# Altium footprint library PcbLib_Discrete.PcbLib: 28 footprints (part 1 of 2)
Each footprint in its own frame and in the unit in brackets; x right, y up, seen from the top. Pads: shape width x height; smd on the part's side, far side on the other; paste and mask are expansions set on the pad; w line width, h text height; cw(c..) or ccw(c..) is an arc to the next point about the centre after c.
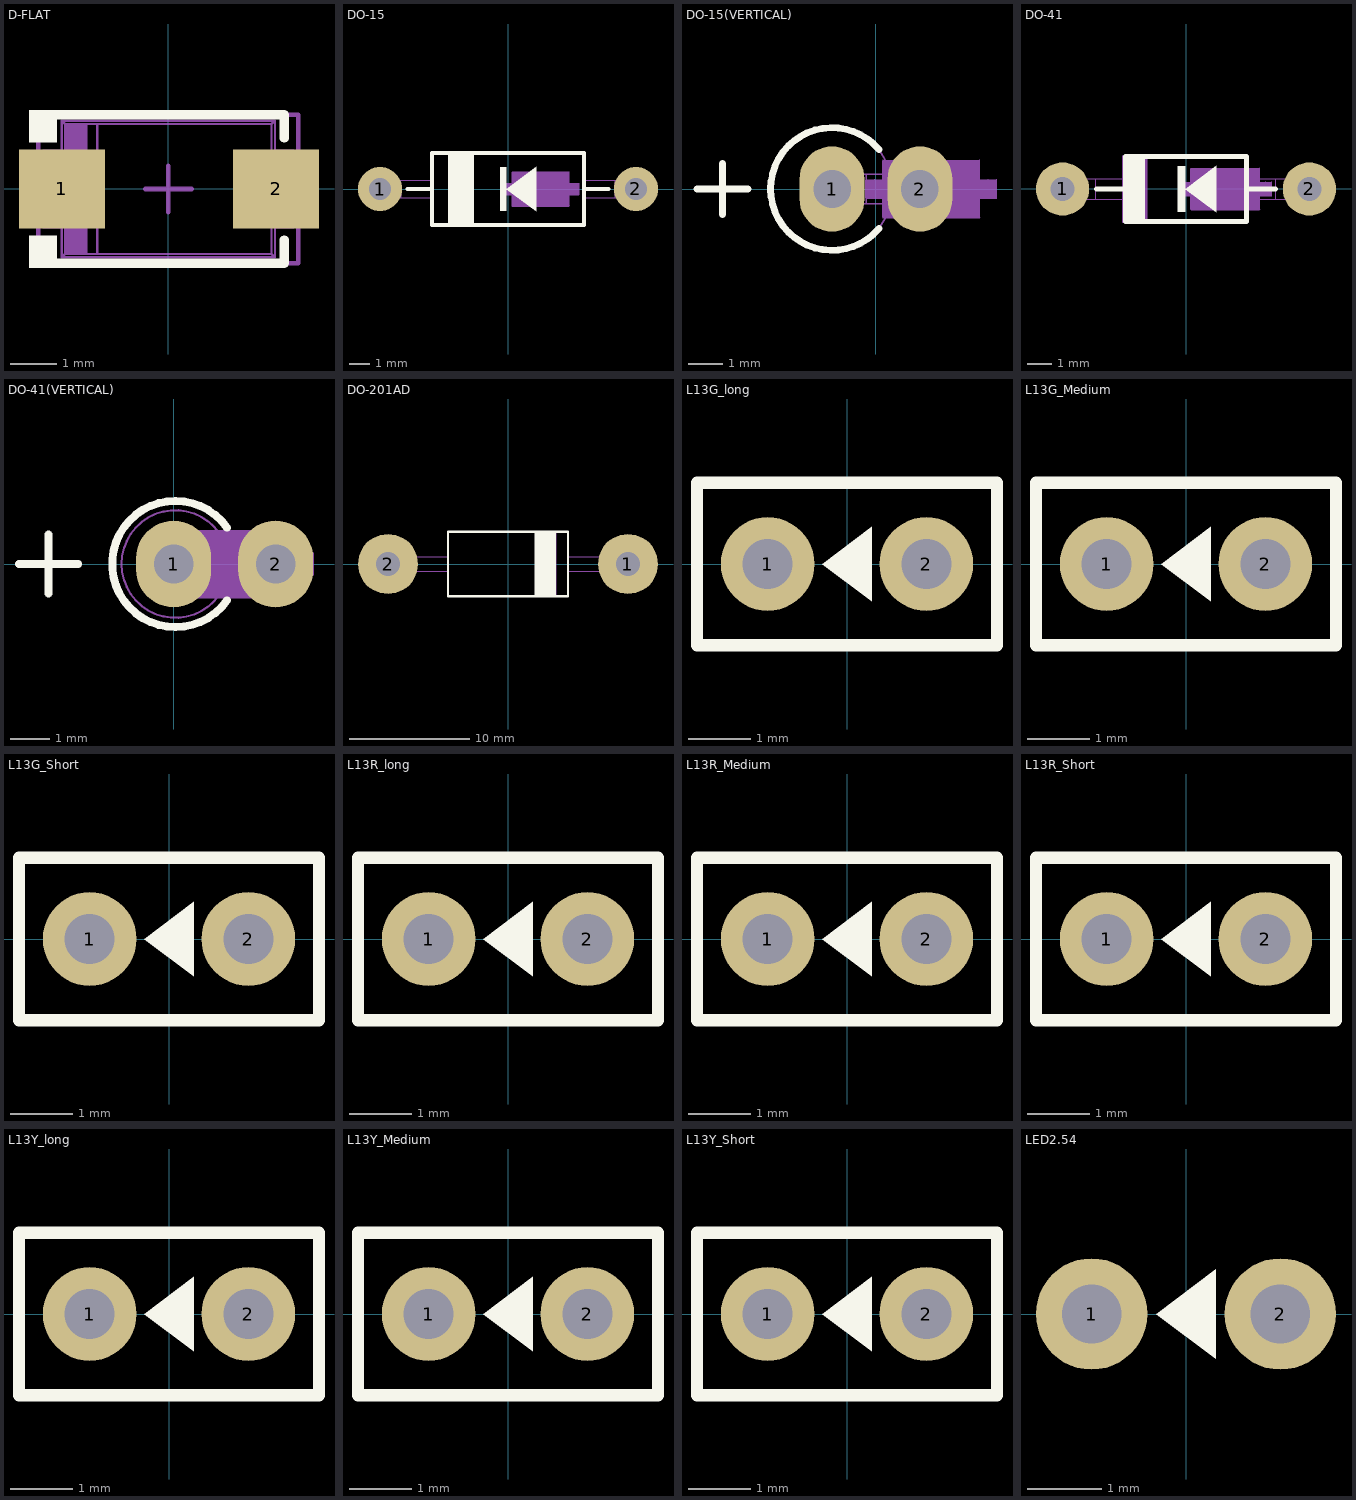
[diagram p0: the footprints below, top view; thin cyan lines are the x and y axes]

## D-FLAT [mm]
height 1.1
pads (2):
  rect 1.85x1.7 smd: 1(-2.293,0) 2(2.325,0)
Top Overlay:
  rectangle: -3,1 -2.4,1.7
  rectangle: -3,-1.7 -2.4,-1
  lines w0.2: -2.5,-1.1 -2.5,-1.6 2.5,-1.6 2.5,-1.1 ; -2.5,1.1 -2.5,1.6 2.5,1.6 2.5,1.1
Mechanical 5:
  text ".Designator" at -2.159,-0.508 h1.02
Mechanical 13:
  rectangle: -2.226,-1.401 -1.762,1.401
  lines w0.05: -2.3,-1.475 2.3,-1.475 ; -2.3,-1.475 -2.3,-0.825 -2.7,-0.825 -2.7,0.825 -2.3,0.825 -2.3,1.475 ; -2.3,-1.475 -2.226,-1.401 ; -2.3,-1.475 -2.3,1.475 ; -2.3,1.475 2.3,1.475 ; -2.3,1.475 -2.226,1.401 ; -2.226,-1.401 -2.226,1.401 ; -2.226,-1.401 -1.762,-1.401 ; -2.226,1.401 -1.762,1.401 ; -1.762,-1.401 -1.762,-1.402 -1.534,-1.402 -1.534,-1.401 ; -1.762,-1.401 -1.762,1.401 ; -1.762,1.401 -1.762,1.402 -1.534,1.402 -1.534,1.401 ; -1.534,-1.401 2.226,-1.401 ; -1.534,-1.401 -1.534,1.401 ; -1.534,1.401 2.226,1.401 ; 2.226,-1.401 2.3,-1.475 ; 2.226,-1.401 2.226,1.401 ; 2.226,1.401 2.3,1.475 ; 2.3,-1.475 2.3,-0.825 2.7,-0.825 2.7,0.825 2.3,0.825 2.3,1.475 ; 2.3,-1.475 2.3,1.475
  text ".Designator" at -2.579,-0.349 h1.5
Mechanical 15:
  lines w0.1: -0.5,0 0.5,0 ; 0,-0.5 0,0.5 ; -2.8,-1.6 -2.8,1.6 2.8,1.6 2.8,-1.6 -2.8,-1.6
3D body "User Library-D-Flat.step": height 1.1, standoff 0, extent -2.7,-1.475 2.7,1.475

## DO-15 [mm]
pads (2):
  round 2.2 hole 1.1: 1(-6.38,0) 2(6.38,0)
Top Overlay:
  rectangle: -0.4,-1.1 -0.08,1.1
  rectangle: -3,-1.8 -1.7,1.8
  region: 1.4,1.11 -0.08,0 1.4,-1.11
  lines w0.2: -5,0 -3.8,0 ; 3.8,0 5,0 ; -3.8,-1.8 3.8,-1.8 3.8,1.8 -3.8,1.8 -3.8,-1.8
Mechanical 3:
  lines w0.013: 0.2,-0.275 0.1,-0.275 ; 0.2,0.275 0.1,0.275 ; 3.05,-0.275 3.15,-0.275 ; 3.05,0.275 3.15,0.275 ; -0.3,-0.255 ccw(c-0.28,-0.255) -0.28,-0.275 ; -0.3,-0.255 -0.28,-0.255 ; -0.3,-0.255 -0.3,0.255 ; -0.3,0.255 cw(c-0.28,0.255) -0.28,0.275 ; -0.3,0.255 -0.28,0.255 ; -0.28,-0.275 -0.28,-0.255 ; -0.28,-0.275 -0.1,-0.275 ; -0.28,-0.255 -0.28,0.255 ; -0.28,-0.255 -0.1,-0.255 ; -0.28,0.255 -0.28,0.275 ; -0.28,0.255 -0.1,0.255 ; -0.28,0.275 -0.1,0.275 ; -0.1,-0.275 -0.1,-0.255 ; -0.1,-0.275 -0.03,-0.275 ; -0.1,-0.255 -0.1,0.255 ; -0.1,-0.255 -0.05,-0.255 ; -0.1,0.255 -0.1,0.275 ; -0.1,0.255 -0.05,0.255 ; -0.1,0.275 -0.03,0.275 ; -0.05,-0.255 ccw(c-0.03,-0.255) -0.03,-0.275 ; -0.05,-0.255 0.1,-0.255 ; -0.05,-0.255 -0.05,0.255 ; -0.05,0.255 cw(c-0.03,0.255) -0.03,0.275 ; -0.05,0.255 0.1,0.255 ; -0.03,-0.275 0.1,-0.275 ; -0.03,0.275 0.1,0.275 ; 0.1,-0.275 0.1,-0.255 ; 0.1,-0.255 0.1,0.255 ; 0.1,-0.255 0.2,-0.255 ; 0.1,0.255 0.1,0.275 ; 0.1,0.255 0.2,0.255 ; 0.2,-0.83 ccw(c0.22,-0.83) 0.22,-0.85 ; 0.2,-0.83 0.266,-0.764 ; 0.2,-0.83 0.2,-0.255 ; 0.2,-0.83 0.2,-0.83 ; 0.2,-0.255 0.2,0.255 ; 0.2,0.255 0.2,0.83 ; 0.2,0.83 cw(c0.22,0.83) 0.22,0.85 ; 0.2,0.83 0.266,0.764 ; 0.2,0.83 0.2,0.83 ; 0.22,-0.85 0.286,-0.784 ; 0.22,-0.85 0.22,-0.85 ; 0.22,-0.85 3.03,-0.85 ; 0.22,0.85 0.286,0.784 ; 0.22,0.85 0.22,0.85 ; 0.22,0.85 3.03,0.85 ; 0.266,-0.764 ccw(c0.286,-0.764) 0.286,-0.784 ; 0.266,-0.764 0.266,0.764 ; 0.266,-0.764 0.286,-0.764 ; 0.266,0.764 cw(c0.286,0.764) 0.286,0.784 ; 0.266,0.764 0.286,0.764 ; 0.286,-0.784 2.964,-0.784 ; 0.286,-0.784 0.286,-0.764 ; 0.286,-0.764 0.286,0.764 ; 0.286,-0.764 0.736,-0.764 ; 0.286,0.764 0.286,0.784 ; 0.286,0.764 0.736,0.764 ; 0.286,0.784 2.964,0.784 ; 0.736,-0.764 2.964,-0.764 ; 0.736,-0.764 0.736,0.764 ; 0.736,0.764 2.964,0.764 ; 2.964,-0.784 ccw(c2.964,-0.764) 2.984,-0.764 ; 2.964,-0.784 3.03,-0.85 ; 2.964,-0.784 2.964,-0.764 ; 2.964,-0.764 2.984,-0.764 ; 2.964,-0.764 2.964,0.764 ; 2.964,0.764 2.984,0.764 ; 2.964,0.764 2.964,0.784 ; 2.964,0.784 cw(c2.964,0.764) 2.984,0.764 ; 2.964,0.784 3.03,0.85 ; 2.984,-0.764 3.05,-0.83 ; 2.984,-0.764 2.984,0.764 ; 2.984,0.764 3.05,0.83 ; 3.03,-0.85 ccw(c3.03,-0.83) 3.05,-0.83 ; 3.03,-0.85 3.03,-0.85 ; 3.03,0.85 cw(c3.03,0.83) 3.05,0.83 ; 3.03,0.85 3.03,0.85 ; 3.05,-0.83 3.05,-0.83 ; 3.05,-0.83 3.05,-0.255 ; 3.05,-0.255 3.15,-0.255 ; 3.05,-0.255 3.05,0.255 ; 3.05,0.255 3.15,0.255 ; 3.05,0.255 3.05,0.83 ; 3.05,0.83 3.05,0.83 ; 3.15,-0.275 3.15,-0.255 ; 3.15,-0.275 3.28,-0.275 ; 3.15,-0.255 3.3,-0.255 ; 3.15,-0.255 3.15,0.255 ; 3.15,0.255 3.3,0.255 ; 3.15,0.255 3.15,0.275 ; 3.15,0.275 3.28,0.275 ; 3.28,-0.275 ccw(c3.28,-0.255) 3.3,-0.255 ; 3.28,-0.275 3.35,-0.275 ; 3.28,0.275 cw(c3.28,0.255) 3.3,0.255 ; 3.28,0.275 3.35,0.275 ; 3.3,-0.255 3.35,-0.255 ; 3.3,-0.255 3.3,0.255 ; 3.3,0.255 3.35,0.255 ; 3.35,-0.275 3.35,-0.255 ; 3.35,-0.275 3.53,-0.275 ; 3.35,-0.255 3.53,-0.255 ; 3.35,-0.255 3.35,0.255 ; 3.35,0.255 3.53,0.255 ; 3.35,0.255 3.35,0.275 ; 3.35,0.275 3.53,0.275 ; 3.53,-0.275 ccw(c3.53,-0.255) 3.55,-0.255 ; 3.53,-0.275 3.53,-0.255 ; 3.53,-0.255 3.55,-0.255 ; 3.53,-0.255 3.53,0.255 ; 3.53,0.255 3.53,0.275 ; 3.53,0.255 3.55,0.255 ; 3.53,0.275 cw(c3.53,0.255) 3.55,0.255 ; 3.55,-0.255 3.55,0.255
  text ".Designator" at 0.825,-0.35 h1
Mechanical 4:
  rectangle: 0.2,-0.85 3.05,0.85
  rectangle: -0.3,-0.275 0.2,0.275
  rectangle: 3.05,-0.275 3.55,0.275
Mechanical 13:
  rectangle: -2.76,-1.78 -1.76,1.78
  lines w0.05: -6.339,-0.429 cw(c-6.344,-0.002) -6.77,0 ; -6.34,0.43 ccw(c-6.341,0.001) -6.77,0 ; -5.34,0.429 -5.34,0 -5.34,-0.43 ; -3.86,-0.43 -5.34,-0.43 ; -3.86,0.43 -5.34,0.43 ; 3.86,-0.43 5.36,-0.43 ; 3.86,0.43 5.36,0.43 ; 5.36,-0.429 5.36,0 5.36,0.43 ; 5.36,0.43 6.36,0.43 cw(c6.36,0) 6.36,-0.43 5.36,-0.43 ; 6.359,0.429 cw(c6.364,0.002) 6.79,0 cw(c6.361,-0.001) 6.36,-0.43 ; -6.77,0 cw(c-6.34,0) -6.34,0.43 -5.34,0.43 ; -6.77,0 ccw(c-6.34,0) -6.34,-0.43 -5.34,-0.43 ; -5.34,-0.43 -5.34,0.43 ; -2.76,-1.78 -1.76,-1.78 ; -2.76,-1.78 -3.86,-1.78 -3.86,1.78 -2.76,1.78 ; -2.76,-1.78 -2.76,1.78 ; -2.76,1.78 -1.76,1.78 ; -1.76,-1.78 3.86,-1.78 3.86,1.78 -1.76,1.78 ; -1.76,-1.78 -1.76,1.78 ; 5.36,-0.43 5.36,0.43
  text ".Designator" at -2.064,-0.28 h1.2
3D body "User Library-DO-15-2.STEP": height 4.28, standoff -2.5, extent -6.78,-1.78 6.78,1.78

## DO-15(VERTICAL) [mm]
pads (2):
  oval 1.9x2.5 hole 1.1: 1(-1.29,0) 2(1.29,0)
Top Overlay:
  lines w0.2: -5.25,0 -3.75,0 ; -4.5,-0.75 -4.5,0.75 ; 0.089,-1.157 cw(c-1.29,0) 0.089,1.157
Mechanical 3:
  lines w0.013: 0.2,-0.275 0.1,-0.275 ; 0.2,0.275 0.1,0.275 ; 3.05,-0.275 3.15,-0.275 ; 3.05,0.275 3.15,0.275 ; -0.3,-0.255 ccw(c-0.28,-0.255) -0.28,-0.275 ; -0.3,-0.255 -0.3,0.255 ; -0.3,-0.255 -0.28,-0.255 ; -0.3,0.255 cw(c-0.28,0.255) -0.28,0.275 ; -0.3,0.255 -0.28,0.255 ; -0.28,-0.275 -0.1,-0.275 ; -0.28,-0.275 -0.28,-0.255 ; -0.28,-0.255 -0.1,-0.255 ; -0.28,-0.255 -0.28,0.255 ; -0.28,0.255 -0.1,0.255 ; -0.28,0.255 -0.28,0.275 ; -0.28,0.275 -0.1,0.275 ; -0.1,-0.275 -0.03,-0.275 ; -0.1,-0.275 -0.1,-0.255 ; -0.1,-0.255 -0.05,-0.255 ; -0.1,-0.255 -0.1,0.255 ; -0.1,0.255 -0.05,0.255 ; -0.1,0.255 -0.1,0.275 ; -0.1,0.275 -0.03,0.275 ; -0.05,-0.255 ccw(c-0.03,-0.255) -0.03,-0.275 ; -0.05,-0.255 -0.05,0.255 ; -0.05,-0.255 0.1,-0.255 ; -0.05,0.255 cw(c-0.03,0.255) -0.03,0.275 ; -0.05,0.255 0.1,0.255 ; -0.03,-0.275 0.1,-0.275 ; -0.03,0.275 0.1,0.275 ; 0.1,-0.275 0.1,-0.255 ; 0.1,-0.255 0.2,-0.255 ; 0.1,-0.255 0.1,0.255 ; 0.1,0.255 0.2,0.255 ; 0.1,0.255 0.1,0.275 ; 0.2,-0.83 ccw(c0.22,-0.83) 0.22,-0.85 ; 0.2,-0.83 0.2,-0.83 ; 0.2,-0.83 0.2,-0.255 ; 0.2,-0.83 0.266,-0.764 ; 0.2,-0.255 0.2,0.255 ; 0.2,0.255 0.2,0.83 ; 0.2,0.83 cw(c0.22,0.83) 0.22,0.85 ; 0.2,0.83 0.2,0.83 ; 0.2,0.83 0.266,0.764 ; 0.22,-0.85 3.03,-0.85 ; 0.22,-0.85 0.22,-0.85 ; 0.22,-0.85 0.286,-0.784 ; 0.22,0.85 3.03,0.85 ; 0.22,0.85 0.22,0.85 ; 0.22,0.85 0.286,0.784 ; 0.266,-0.764 ccw(c0.286,-0.764) 0.286,-0.784 ; 0.266,-0.764 0.286,-0.764 ; 0.266,-0.764 0.266,0.764 ; 0.266,0.764 cw(c0.286,0.764) 0.286,0.784 ; 0.266,0.764 0.286,0.764 ; 0.286,-0.784 0.286,-0.764 ; 0.286,-0.784 2.964,-0.784 ; 0.286,-0.764 0.736,-0.764 ; 0.286,-0.764 0.286,0.764 ; 0.286,0.764 0.736,0.764 ; 0.286,0.764 0.286,0.784 ; 0.286,0.784 2.964,0.784 ; 0.736,-0.764 0.736,0.764 ; 0.736,-0.764 2.964,-0.764 ; 0.736,0.764 2.964,0.764 ; 2.964,-0.784 ccw(c2.964,-0.764) 2.984,-0.764 ; 2.964,-0.784 2.964,-0.764 ; 2.964,-0.784 3.03,-0.85 ; 2.964,-0.764 2.964,0.764 ; 2.964,-0.764 2.984,-0.764 ; 2.964,0.764 2.964,0.784 ; 2.964,0.764 2.984,0.764 ; 2.964,0.784 cw(c2.964,0.764) 2.984,0.764 ; 2.964,0.784 3.03,0.85 ; 2.984,-0.764 2.984,0.764 ; 2.984,-0.764 3.05,-0.83 ; 2.984,0.764 3.05,0.83 ; 3.03,-0.85 ccw(c3.03,-0.83) 3.05,-0.83 ; 3.03,-0.85 3.03,-0.85 ; 3.03,0.85 cw(c3.03,0.83) 3.05,0.83 ; 3.03,0.85 3.03,0.85 ; 3.05,-0.83 3.05,-0.255 ; 3.05,-0.83 3.05,-0.83 ; 3.05,-0.255 3.05,0.255 ; 3.05,-0.255 3.15,-0.255 ; 3.05,0.255 3.05,0.83 ; 3.05,0.255 3.15,0.255 ; 3.05,0.83 3.05,0.83 ; 3.15,-0.275 3.28,-0.275 ; 3.15,-0.275 3.15,-0.255 ; 3.15,-0.255 3.15,0.255 ; 3.15,-0.255 3.3,-0.255 ; 3.15,0.255 3.15,0.275 ; 3.15,0.255 3.3,0.255 ; 3.15,0.275 3.28,0.275 ; 3.28,-0.275 ccw(c3.28,-0.255) 3.3,-0.255 ; 3.28,-0.275 3.35,-0.275 ; 3.28,0.275 cw(c3.28,0.255) 3.3,0.255 ; 3.28,0.275 3.35,0.275 ; 3.3,-0.255 3.3,0.255 ; 3.3,-0.255 3.35,-0.255 ; 3.3,0.255 3.35,0.255 ; 3.35,-0.275 3.53,-0.275 ; 3.35,-0.275 3.35,-0.255 ; 3.35,-0.255 3.35,0.255 ; 3.35,-0.255 3.53,-0.255 ; 3.35,0.255 3.35,0.275 ; 3.35,0.255 3.53,0.255 ; 3.35,0.275 3.53,0.275 ; 3.53,-0.275 ccw(c3.53,-0.255) 3.55,-0.255 ; 3.53,-0.275 3.53,-0.255 ; 3.53,-0.255 3.53,0.255 ; 3.53,-0.255 3.55,-0.255 ; 3.53,0.255 3.55,0.255 ; 3.53,0.255 3.53,0.275 ; 3.53,0.275 cw(c3.53,0.255) 3.55,0.255 ; 3.55,-0.255 3.55,0.255
  text ".Designator" at 0.825,-0.35 h1
Mechanical 4:
  rectangle: 3.05,-0.275 3.55,0.275
  rectangle: -0.3,-0.275 0.2,0.275
  rectangle: 0.2,-0.85 3.05,0.85
Mechanical 13:
  lines w0.05: -1.288,-0.429 cw(c-1.292,-0.003) -1.719,-0.001 cw(c-1.29,0) -1.288,0.429 ; -0.289,0.429 -0.289,-0.001 -0.289,-0.431 ; 0.439,-0.431 cw(c-1.289,-0.001) 0.439,0.429 ; 1.251,0.428 cw(c1.255,0.001) 1.681,-0.001 ; -0.289,-0.431 -1.289,-0.431 cw(c-1.289,-0.001) -1.289,0.429 -0.289,0.429 ; -0.289,-0.431 0.251,-0.431 ; -0.289,-0.431 -0.289,0.429 ; -0.289,0.429 0.251,0.429 ; 0.251,-0.431 1.251,-0.431 ; 0.251,-0.43 0.251,-0.001 0.251,0.429 ; 0.251,-0.431 0.251,0.429 ; 0.251,0.429 1.251,0.429 cw(c1.251,-0.001) 1.681,-0.001 ; 1.251,-0.43 ccw(c1.253,-0.002) 1.681,-0.001 ; 1.251,-0.431 ccw(c1.251,-0.001) 1.681,-0.001
  text ".Designator" at -0.064,-1.28 h1.2
3D body "DO-15-Vertical_100.STEP": height 12.05, standoff -3, extent -3.05,-1.78 1.7,1.78

## DO-41 [mm]
pads (2):
  round 2.2 hole 1: 1(-5.1,0) 2(5.1,0)
Top Overlay:
  rectangle: -0.35,-0.95 -0.03,0.95
  rectangle: -2.5,-1.35 -1.7,1.35
  region: 1.25,0.96 -0.03,0 1.25,-0.96
  lines w0.2: -3.7,0 -2.5,0 ; 2.5,0 3.7,0 ; -2.5,-1.35 2.5,-1.35 2.5,1.35 -2.5,1.35 -2.5,-1.35
Mechanical 3:
  lines w0.013: 0.2,-0.275 0.1,-0.275 ; 0.2,0.275 0.1,0.275 ; 3.05,-0.275 3.15,-0.275 ; 3.05,0.275 3.15,0.275 ; -0.3,-0.255 ccw(c-0.28,-0.255) -0.28,-0.275 ; -0.3,-0.255 -0.28,-0.255 ; -0.3,-0.255 -0.3,0.255 ; -0.3,0.255 cw(c-0.28,0.255) -0.28,0.275 ; -0.3,0.255 -0.28,0.255 ; -0.28,-0.275 -0.28,-0.255 ; -0.28,-0.275 -0.1,-0.275 ; -0.28,-0.255 -0.28,0.255 ; -0.28,-0.255 -0.1,-0.255 ; -0.28,0.255 -0.28,0.275 ; -0.28,0.255 -0.1,0.255 ; -0.28,0.275 -0.1,0.275 ; -0.1,-0.275 -0.1,-0.255 ; -0.1,-0.275 -0.03,-0.275 ; -0.1,-0.255 -0.1,0.255 ; -0.1,-0.255 -0.05,-0.255 ; -0.1,0.255 -0.1,0.275 ; -0.1,0.255 -0.05,0.255 ; -0.1,0.275 -0.03,0.275 ; -0.05,-0.255 ccw(c-0.03,-0.255) -0.03,-0.275 ; -0.05,-0.255 0.1,-0.255 ; -0.05,-0.255 -0.05,0.255 ; -0.05,0.255 cw(c-0.03,0.255) -0.03,0.275 ; -0.05,0.255 0.1,0.255 ; -0.03,-0.275 0.1,-0.275 ; -0.03,0.275 0.1,0.275 ; 0.1,-0.275 0.1,-0.255 ; 0.1,-0.255 0.1,0.255 ; 0.1,-0.255 0.2,-0.255 ; 0.1,0.255 0.1,0.275 ; 0.1,0.255 0.2,0.255 ; 0.2,-0.83 ccw(c0.22,-0.83) 0.22,-0.85 ; 0.2,-0.83 0.266,-0.764 ; 0.2,-0.83 0.2,-0.255 ; 0.2,-0.83 0.2,-0.83 ; 0.2,-0.255 0.2,0.255 ; 0.2,0.255 0.2,0.83 ; 0.2,0.83 cw(c0.22,0.83) 0.22,0.85 ; 0.2,0.83 0.266,0.764 ; 0.2,0.83 0.2,0.83 ; 0.22,-0.85 0.286,-0.784 ; 0.22,-0.85 0.22,-0.85 ; 0.22,-0.85 3.03,-0.85 ; 0.22,0.85 0.286,0.784 ; 0.22,0.85 0.22,0.85 ; 0.22,0.85 3.03,0.85 ; 0.266,-0.764 ccw(c0.286,-0.764) 0.286,-0.784 ; 0.266,-0.764 0.266,0.764 ; 0.266,-0.764 0.286,-0.764 ; 0.266,0.764 cw(c0.286,0.764) 0.286,0.784 ; 0.266,0.764 0.286,0.764 ; 0.286,-0.784 2.964,-0.784 ; 0.286,-0.784 0.286,-0.764 ; 0.286,-0.764 0.286,0.764 ; 0.286,-0.764 0.736,-0.764 ; 0.286,0.764 0.286,0.784 ; 0.286,0.764 0.736,0.764 ; 0.286,0.784 2.964,0.784 ; 0.736,-0.764 2.964,-0.764 ; 0.736,-0.764 0.736,0.764 ; 0.736,0.764 2.964,0.764 ; 2.964,-0.784 ccw(c2.964,-0.764) 2.984,-0.764 ; 2.964,-0.784 3.03,-0.85 ; 2.964,-0.784 2.964,-0.764 ; 2.964,-0.764 2.984,-0.764 ; 2.964,-0.764 2.964,0.764 ; 2.964,0.764 2.984,0.764 ; 2.964,0.764 2.964,0.784 ; 2.964,0.784 cw(c2.964,0.764) 2.984,0.764 ; 2.964,0.784 3.03,0.85 ; 2.984,-0.764 3.05,-0.83 ; 2.984,-0.764 2.984,0.764 ; 2.984,0.764 3.05,0.83 ; 3.03,-0.85 ccw(c3.03,-0.83) 3.05,-0.83 ; 3.03,-0.85 3.03,-0.85 ; 3.03,0.85 cw(c3.03,0.83) 3.05,0.83 ; 3.03,0.85 3.03,0.85 ; 3.05,-0.83 3.05,-0.83 ; 3.05,-0.83 3.05,-0.255 ; 3.05,-0.255 3.15,-0.255 ; 3.05,-0.255 3.05,0.255 ; 3.05,0.255 3.15,0.255 ; 3.05,0.255 3.05,0.83 ; 3.05,0.83 3.05,0.83 ; 3.15,-0.275 3.15,-0.255 ; 3.15,-0.275 3.28,-0.275 ; 3.15,-0.255 3.3,-0.255 ; 3.15,-0.255 3.15,0.255 ; 3.15,0.255 3.3,0.255 ; 3.15,0.255 3.15,0.275 ; 3.15,0.275 3.28,0.275 ; 3.28,-0.275 ccw(c3.28,-0.255) 3.3,-0.255 ; 3.28,-0.275 3.35,-0.275 ; 3.28,0.275 cw(c3.28,0.255) 3.3,0.255 ; 3.28,0.275 3.35,0.275 ; 3.3,-0.255 3.35,-0.255 ; 3.3,-0.255 3.3,0.255 ; 3.3,0.255 3.35,0.255 ; 3.35,-0.275 3.35,-0.255 ; 3.35,-0.275 3.53,-0.275 ; 3.35,-0.255 3.53,-0.255 ; 3.35,-0.255 3.35,0.255 ; 3.35,0.255 3.53,0.255 ; 3.35,0.255 3.35,0.275 ; 3.35,0.275 3.53,0.275 ; 3.53,-0.275 ccw(c3.53,-0.255) 3.55,-0.255 ; 3.53,-0.275 3.53,-0.255 ; 3.53,-0.255 3.55,-0.255 ; 3.53,-0.255 3.53,0.255 ; 3.53,0.255 3.53,0.275 ; 3.53,0.255 3.55,0.255 ; 3.53,0.275 cw(c3.53,0.255) 3.55,0.255 ; 3.55,-0.255 3.55,0.255
  text ".Designator" at 0.825,-0.35 h1
Mechanical 4:
  rectangle: 0.2,-0.85 3.05,0.85
  rectangle: -0.3,-0.275 0.2,0.275
  rectangle: 3.05,-0.275 3.55,0.275
Mechanical 13:
  rectangle: -2.61,-1.36 -1.61,1.365
  lines w0.05: -2.61,-0.43 -3.725,-0.43 ; -2.61,0.43 -3.725,0.43 ; -1.61,-1.36 2.6,-1.36 2.6,1.36 -1.61,1.36 ; 2.6,-0.43 3.715,-0.43 ; 2.6,0.43 3.715,0.43 ; -3.725,-0.43 -3.725,0.43 ; -3.725,-0.43 -5.085,-0.43 cw(c-5.085,0) -5.085,0.43 -3.725,0.43 ; 3.715,-0.43 3.715,0.43 ; 3.715,-0.43 5.075,-0.43 ccw(c5.075,0) 5.075,0.43 3.715,0.43 ; -2.61,-1.365 -2.61,1.365 -1.61,1.365 -1.61,-1.365 -2.61,-1.365
  text ".Designator" at -1.564,-0.28 h1.2
3D body "User Library-Diod DO-41 Horizontal.STEP": height 3.37, standoff -2.86, extent -5.51,-1.365 5.51,1.365

## DO-41(VERTICAL) [mm]
pads (2):
  oval 1.9x2.2 hole 1: 1(0,0) 2(2.58,0)
Top Overlay:
  lines w0.2: -3.92,0 -2.42,0 ; -3.17,-0.75 -3.17,0.75 ; 1.351,-0.918 cw(c0.04,0) 1.351,0.918
Mechanical 3:
  lines w0.013: 0.2,-0.275 0.1,-0.275 ; 0.2,0.275 0.1,0.275 ; 3.05,-0.275 3.15,-0.275 ; 3.05,0.275 3.15,0.275 ; -0.3,-0.255 ccw(c-0.28,-0.255) -0.28,-0.275 ; -0.3,-0.255 -0.3,0.255 ; -0.3,-0.255 -0.28,-0.255 ; -0.3,0.255 cw(c-0.28,0.255) -0.28,0.275 ; -0.3,0.255 -0.28,0.255 ; -0.28,-0.275 -0.1,-0.275 ; -0.28,-0.275 -0.28,-0.255 ; -0.28,-0.255 -0.1,-0.255 ; -0.28,-0.255 -0.28,0.255 ; -0.28,0.255 -0.1,0.255 ; -0.28,0.255 -0.28,0.275 ; -0.28,0.275 -0.1,0.275 ; -0.1,-0.275 -0.03,-0.275 ; -0.1,-0.275 -0.1,-0.255 ; -0.1,-0.255 -0.05,-0.255 ; -0.1,-0.255 -0.1,0.255 ; -0.1,0.255 -0.05,0.255 ; -0.1,0.255 -0.1,0.275 ; -0.1,0.275 -0.03,0.275 ; -0.05,-0.255 ccw(c-0.03,-0.255) -0.03,-0.275 ; -0.05,-0.255 -0.05,0.255 ; -0.05,-0.255 0.1,-0.255 ; -0.05,0.255 cw(c-0.03,0.255) -0.03,0.275 ; -0.05,0.255 0.1,0.255 ; -0.03,-0.275 0.1,-0.275 ; -0.03,0.275 0.1,0.275 ; 0.1,-0.275 0.1,-0.255 ; 0.1,-0.255 0.2,-0.255 ; 0.1,-0.255 0.1,0.255 ; 0.1,0.255 0.2,0.255 ; 0.1,0.255 0.1,0.275 ; 0.2,-0.83 ccw(c0.22,-0.83) 0.22,-0.85 ; 0.2,-0.83 0.2,-0.83 ; 0.2,-0.83 0.2,-0.255 ; 0.2,-0.83 0.266,-0.764 ; 0.2,-0.255 0.2,0.255 ; 0.2,0.255 0.2,0.83 ; 0.2,0.83 cw(c0.22,0.83) 0.22,0.85 ; 0.2,0.83 0.2,0.83 ; 0.2,0.83 0.266,0.764 ; 0.22,-0.85 3.03,-0.85 ; 0.22,-0.85 0.22,-0.85 ; 0.22,-0.85 0.286,-0.784 ; 0.22,0.85 3.03,0.85 ; 0.22,0.85 0.22,0.85 ; 0.22,0.85 0.286,0.784 ; 0.266,-0.764 ccw(c0.286,-0.764) 0.286,-0.784 ; 0.266,-0.764 0.286,-0.764 ; 0.266,-0.764 0.266,0.764 ; 0.266,0.764 cw(c0.286,0.764) 0.286,0.784 ; 0.266,0.764 0.286,0.764 ; 0.286,-0.784 0.286,-0.764 ; 0.286,-0.784 2.964,-0.784 ; 0.286,-0.764 0.736,-0.764 ; 0.286,-0.764 0.286,0.764 ; 0.286,0.764 0.736,0.764 ; 0.286,0.764 0.286,0.784 ; 0.286,0.784 2.964,0.784 ; 0.736,-0.764 0.736,0.764 ; 0.736,-0.764 2.964,-0.764 ; 0.736,0.764 2.964,0.764 ; 2.964,-0.784 ccw(c2.964,-0.764) 2.984,-0.764 ; 2.964,-0.784 2.964,-0.764 ; 2.964,-0.784 3.03,-0.85 ; 2.964,-0.764 2.964,0.764 ; 2.964,-0.764 2.984,-0.764 ; 2.964,0.764 2.964,0.784 ; 2.964,0.764 2.984,0.764 ; 2.964,0.784 cw(c2.964,0.764) 2.984,0.764 ; 2.964,0.784 3.03,0.85 ; 2.984,-0.764 2.984,0.764 ; 2.984,-0.764 3.05,-0.83 ; 2.984,0.764 3.05,0.83 ; 3.03,-0.85 ccw(c3.03,-0.83) 3.05,-0.83 ; 3.03,-0.85 3.03,-0.85 ; 3.03,0.85 cw(c3.03,0.83) 3.05,0.83 ; 3.03,0.85 3.03,0.85 ; 3.05,-0.83 3.05,-0.255 ; 3.05,-0.83 3.05,-0.83 ; 3.05,-0.255 3.05,0.255 ; 3.05,-0.255 3.15,-0.255 ; 3.05,0.255 3.05,0.83 ; 3.05,0.255 3.15,0.255 ; 3.05,0.83 3.05,0.83 ; 3.15,-0.275 3.28,-0.275 ; 3.15,-0.275 3.15,-0.255 ; 3.15,-0.255 3.15,0.255 ; 3.15,-0.255 3.3,-0.255 ; 3.15,0.255 3.15,0.275 ; 3.15,0.255 3.3,0.255 ; 3.15,0.275 3.28,0.275 ; 3.28,-0.275 ccw(c3.28,-0.255) 3.3,-0.255 ; 3.28,-0.275 3.35,-0.275 ; 3.28,0.275 cw(c3.28,0.255) 3.3,0.255 ; 3.28,0.275 3.35,0.275 ; 3.3,-0.255 3.3,0.255 ; 3.3,-0.255 3.35,-0.255 ; 3.3,0.255 3.35,0.255 ; 3.35,-0.275 3.53,-0.275 ; 3.35,-0.275 3.35,-0.255 ; 3.35,-0.255 3.35,0.255 ; 3.35,-0.255 3.53,-0.255 ; 3.35,0.255 3.35,0.275 ; 3.35,0.255 3.53,0.255 ; 3.35,0.275 3.53,0.275 ; 3.53,-0.275 ccw(c3.53,-0.255) 3.55,-0.255 ; 3.53,-0.275 3.53,-0.255 ; 3.53,-0.255 3.53,0.255 ; 3.53,-0.255 3.55,-0.255 ; 3.53,0.255 3.55,0.255 ; 3.53,0.255 3.53,0.275 ; 3.53,0.275 cw(c3.53,0.255) 3.55,0.255 ; 3.55,-0.255 3.55,0.255
  text ".Designator" at 0.825,-0.35 h1
Mechanical 4:
  rectangle: 3.05,-0.275 3.55,0.275
  rectangle: -0.3,-0.275 0.2,0.275
  rectangle: 0.2,-0.85 3.05,0.85
Mechanical 13:
  lines w0.05: 1.33,-0.43 cw(c0.04,0) -1.32,0 cw(c0.04,0) 1.33,0.43 ; 1.335,-0.43 cw(c0.04,0) -1.325,0 cw(c0.04,0) 1.335,0.43 ; 1.04,-0.43 1.58,-0.43 ; 1.04,-0.43 0.04,-0.43 cw(c0.04,0) 0.04,0.43 1.04,0.43 ; 1.04,-0.43 1.04,0.43 ; 1.04,0.43 1.58,0.43 ; 1.58,-0.43 2.58,-0.43 ccw(c2.58,0) 2.58,0.43 1.58,0.43 ; 1.58,-0.43 1.58,0.43
  text ".Designator" at 0.186,1.47 h1.2
3D body "User Library-Diod DO-41 Vertical.STEP": height 11.44, standoff -2.7, extent -1.325,-1.365 3.01,1.365

## DO-201AD [mm] "Package DO-201AD/DO-27"
height 0.95
pads (2):
  round 5 hole 2: 1(10,0) 2(-10,0)
Top Overlay:
  rectangle: 2.2,-2.7 4,2.7
  lines w0.2: -5,-2.7 5,-2.7 5,2.7 -5,2.7 -5,-2.7
Mechanical 13:
  lines w0.05: -5,-0.6 -8,-0.6 ; -5,0.6 -8,0.6 ; 2.5,-2.65 -5,-2.65 -5,2.65 2.5,2.65 ; 4,-2.65 5,-2.65 5,2.65 4,2.65 ; 5,-0.6 8,-0.6 ; 5,0.6 8,0.6 ; -8,-0.6 -10,-0.6 cw(c-10,0) -10.6,0 cw(c-10,0) -10,0.6 -8,0.6 ; -8,-0.6 -8,0 -8,0.6 ; 8,-0.6 10,-0.6 ccw(c10,0) 10.6,0 ccw(c10,0) 10,0.6 8,0.6 ; 8,-0.6 8,0 8,0.6 ; 2.5,-2.66 4,-2.66 4,2.66 2.5,2.66 2.5,-2.66
  text ".Designator" at -4.303,-0.583 h2.5
3D body "User Library-MUR440 DO-201AD.step": height 5.46, standoff -3.2, extent -10.6,-2.66 10.6,2.659

## L13G_long [mm] "Led flat top, 2.54mm, long pin"
pads (2):
  round 1.5 hole 0.8: 1(-1.27,0) 2(1.27,0)
Top Overlay:
  region: 0.4,0.6 -0.4,0 0.4,-0.6
  lines w0.2: -2.4,-1.3 2.4,-1.3 2.4,0 2.4,1.3 -2.4,1.3 -2.4,0 -2.4,-1.3
3D body "L-13G_long_pin.STEP": height 2, standoff -16, extent -2.4,-1.25 2.4,1.25

## L13G_Medium [mm] "Led flat top, 2.54mm, medium pin"
pads (2):
  round 1.5 hole 0.8: 1(-1.27,0) 2(1.27,0)
Top Overlay:
  region: 0.4,0.6 -0.4,0 0.4,-0.6
  lines w0.2: -2.4,-1.3 2.4,-1.3 2.4,0 2.4,1.3 -2.4,1.3 -2.4,0 -2.4,-1.3
3D body "L-13G_medium_pin.STEP": height 3, standoff -12, extent -2.4,-1.25 2.4,1.25

## L13G_Short [mm] "Led flat top, 2.54mm, short pin"
pads (2):
  round 1.5 hole 0.8: 1(-1.27,0) 2(1.27,0)
Top Overlay:
  region: 0.4,0.6 -0.4,0 0.4,-0.6
  lines w0.2: -2.4,-1.3 -2.4,0 -2.4,1.3 2.4,1.3 2.4,0 2.4,-1.3 -2.4,-1.3
3D body "L-13G_short_pin.STEP": height 3, standoff -9, extent -2.4,-1.25 2.4,1.25

## L13R_long [mm] "Led flat top, 2.54mm, long pin"
pads (2):
  round 1.5 hole 0.8: 1(-1.27,0) 2(1.27,0)
Top Overlay:
  region: 0.4,0.6 -0.4,0 0.4,-0.6
  lines w0.2: -2.4,-1.3 2.4,-1.3 2.4,0 2.4,1.3 -2.4,1.3 -2.4,0 -2.4,-1.3
3D body "L-13R_long_pin.STEP": height 2, standoff -16, extent -2.4,-1.25 2.4,1.25

## L13R_Medium [mm] "Led flat top, 2.54mm, medium pin"
pads (2):
  round 1.5 hole 0.8: 1(-1.27,0) 2(1.27,0)
Top Overlay:
  region: 0.4,0.6 -0.4,0 0.4,-0.6
  lines w0.2: -2.4,-1.3 -2.4,0 -2.4,1.3 2.4,1.3 2.4,0 2.4,-1.3 -2.4,-1.3
3D body "L-13R_medium_pin.STEP": height 3, standoff -12, extent -2.4,-1.25 2.4,1.25

## L13R_Short [mm] "Led flat top, 2.54mm, short pin"
pads (2):
  round 1.5 hole 0.8: 1(-1.27,0) 2(1.27,0)
Top Overlay:
  region: 0.4,0.6 -0.4,0 0.4,-0.6
  lines w0.2: -2.4,-1.3 -2.4,0 -2.4,1.3 2.4,1.3 2.4,0 2.4,-1.3 -2.4,-1.3
3D body "L-13R_medium_pin.STEP": height 3, standoff -12, extent -2.4,-1.25 2.4,1.25

## L13Y_long [mm] "Led flat top, 2.54mm, long pin"
pads (2):
  round 1.5 hole 0.8: 1(-1.27,0) 2(1.27,0)
Top Overlay:
  region: 0.4,0.6 -0.4,0 0.4,-0.6
  lines w0.2: -2.4,-1.3 2.4,-1.3 2.4,0 2.4,1.3 -2.4,1.3 -2.4,0 -2.4,-1.3
3D body "L-13Y_long_pin.STEP": height 2, standoff -16, extent -2.4,-1.25 2.4,1.25

## L13Y_Medium [mm] "Led flat top, 2.54mm, medium pin"
pads (2):
  round 1.5 hole 0.8: 1(-1.27,0) 2(1.27,0)
Top Overlay:
  region: 0.4,0.6 -0.4,0 0.4,-0.6
  lines w0.2: -2.4,-1.3 2.4,-1.3 2.4,0 2.4,1.3 -2.4,1.3 -2.4,0 -2.4,-1.3
3D body "L-13Y_medium_pin.STEP": height 12, standoff -3, extent -2.4,-1.2 2.4,1.3

## L13Y_Short [mm] "Led flat top, 2.54mm, short pin"
pads (2):
  round 1.5 hole 0.8: 1(-1.27,0) 2(1.27,0)
Top Overlay:
  region: 0.4,0.6 -0.4,0 0.4,-0.6
  lines w0.2: -2.4,-1.3 -2.4,0 -2.4,1.3 2.4,1.3 2.4,0 2.4,-1.3 -2.4,-1.3
3D body "L-13Y_short_pin.STEP": height 9, standoff -3, extent -2.4,-1.3 2.4,1.2

## LED2.54 [mm] "Led, 2.54mm"
pads (2):
  round 1.5 hole 0.8: 1(-1.27,0) 2(1.27,0)
Top Overlay:
  region: 0.4,0.6 -0.4,0 0.4,-0.6